# EAGLE library part MICRO-USB-AB (library bytewerk-con)
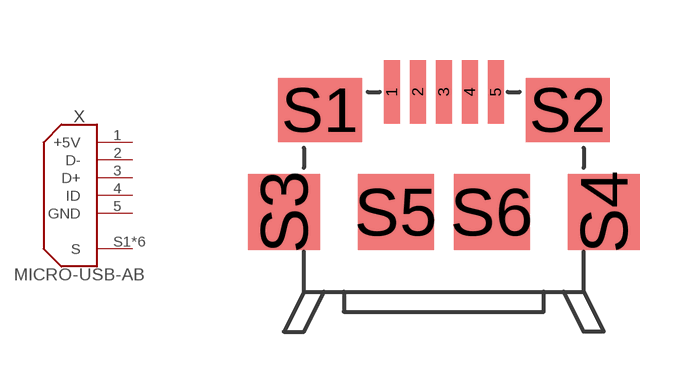
[diagram p2: symbol with the pads of ZX62-B-5PA(11); footprint ZX62-B-5PA(11)]

Designator prefix X

## MICRO-USB-AB (MF: HIROSE; MPN: ZX62-AB-5PA(11); OC_MOUSER: 798-ZX62-AB-5PA11)  [ZX62-B-5PA(11)]
1  +5V  pas
2  D-  pas
3  D+  pas
4  ID  pas
5  GND  pas
S1  S  pas
S2  S  pas
S3  S  pas
S4  S  pas
S5  S  pas
S6  S  pas

## Footprint ZX62-B-5PA(11) (pad centres in mm)
smd 0.4 x 1.6: 1 -1.3,3; 2 -0.65,3; 3 0,3; 4 0.65,3; 5 1.3,3
smd 2.1 x 1.6: S1 -3.1,2.55; S2 3.1,2.55
smd 1.8 x 1.9: S3 -4,0; S4 4,0
smd 1.9 x 1.9: S5 -1.2,0; S6 1.2,0